# EAGLE library part 350431-1 (library con-amp)
Universal MATE-N-LOK .250" Centerline, 600 V, 19 - 36 A max Source: http://catalog.tycoelectronics.com/ .. ENG_CD_350431_Y.pdf
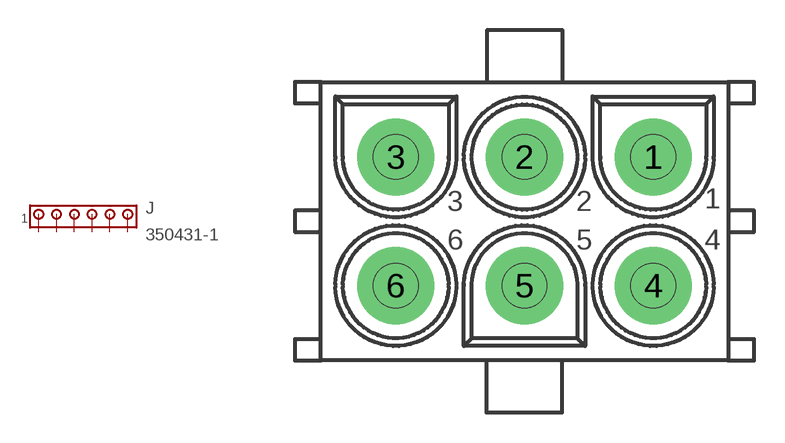
[diagram p176: symbol with the pads of 350431-1; footprint 350431-1]

Designator prefix J

## 350431-1  [350431-1]
1  1  pas
2  2  pas
3  3  pas
4  4  pas
5  5  pas
6  6  pas

## Footprint 350431-1 (pad centres in mm)
Universal MATE-N-LOK .250" Centerline, 600 V, 19 - 36 A max Source: http://catalog.tycoelectronics.com/ .. ENG_CD_350431_Y.pdf
drill 1.8 pad 3.81: 1 6.35,0; 2 0,0; 3 -6.35,0; 4 6.35,-6.35; 5 0,-6.35; 6 -6.35,-6.35